# Altium footprint library Connectors.PcbLib: 45 footprints (part 2 of 3)
Each footprint in its own frame and in the unit in brackets; x right, y up, seen from the top. Pads: shape width x height; smd on the part's side, far side on the other; paste and mask are expansions set on the pad; w line width, h text height; cw(c..) or ccw(c..) is an arc to the next point about the centre after c.
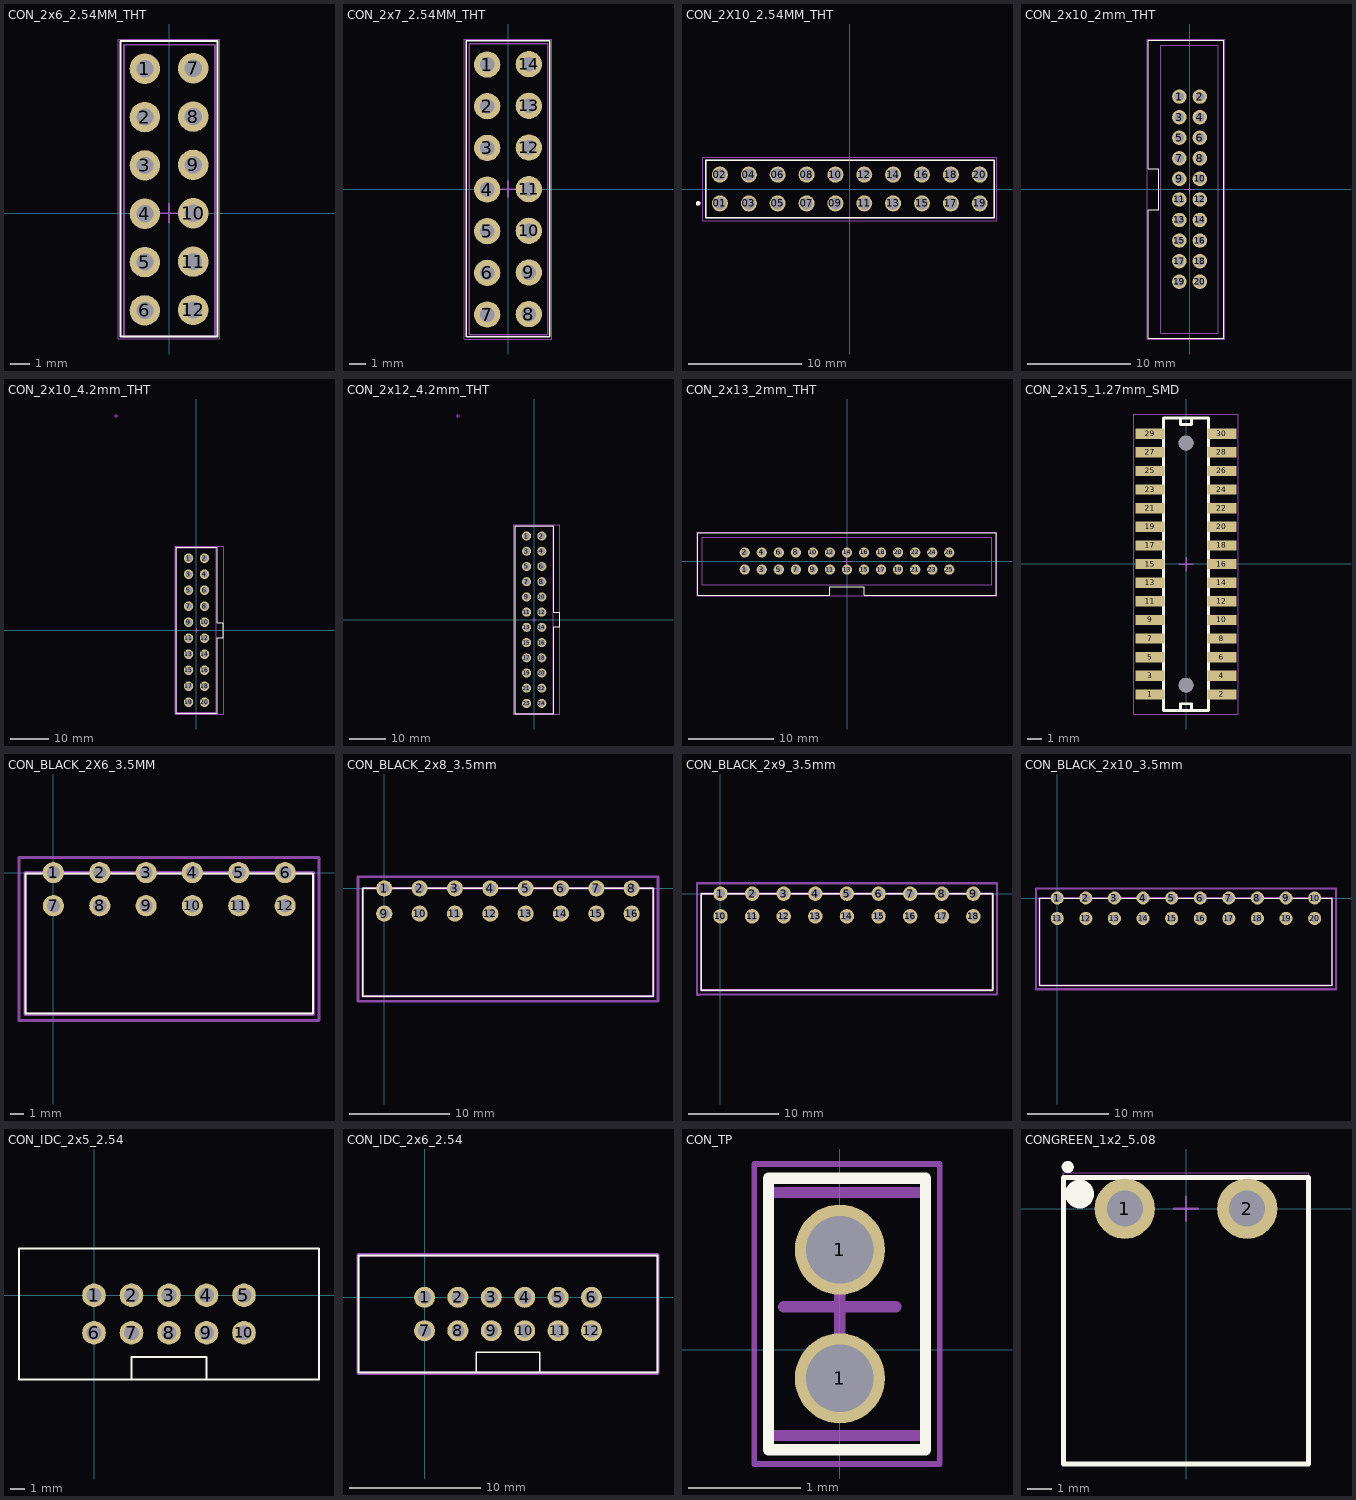
[diagram p1: the footprints below, top view; thin cyan lines are the x and y axes]

## CON_2x6_2.54MM_THT [mm]
height 1.4
pads (12):
  round 1.6 hole 0.9: 1(-1.27,7.596) 2(-1.27,5.056) 3(-1.27,2.516) 4(-1.27,-0.024) 5(-1.27,-2.564) 6(-1.27,-5.104) 7(1.27,7.62) 8(1.27,5.08) 9(1.27,2.54) 10(1.27,0) 11(1.27,-2.54) 12(1.27,-5.08)
Top Overlay:
  lines w0.1: -2.54,-6.477 2.54,-6.477 2.54,9.056 -2.54,9.056 -2.54,-6.477
Bottom Assembly:
  lines w0.05: -2.667,-6.604 -2.667,9.144 ; 2.667,-6.604 2.667,9.144
Mechanical 13:
  lines w0.1: -2.37,-6.471 -1.174,-6.471 1.217,-6.471 2.413,-6.471 ; -2.37,-6.471 -2.37,8.856 2.413,8.856 2.413,-6.471 ; -2.37,-6.471 2.413,-6.471
Mechanical 15:
  lines w0.05: -2.67,-6.598 -1.336,-6.598 1.333,-6.598 2.667,-6.598 ; -2.67,9.156 2.667,9.156
  lines w0.1: -0.492,0 0.508,0 ; 0,-0.493 0,0.507
3D body: height 6.3, standoff 0.1, extent -2.27,-6.477 2.286,8.757

## CON_2x7_2.54MM_THT [mm]
height 1.4
pads (14):
  round 1.6 hole 0.9: 1(-1.27,7.596) 2(-1.27,5.056) 3(-1.27,2.516) 4(-1.27,-0.024) 5(-1.27,-2.564) 6(-1.27,-5.104) 7(-1.27,-7.644) 8(1.27,-7.62) 9(1.27,-5.08) 10(1.27,-2.54) 11(1.27,0) 12(1.27,2.54) 13(1.27,5.08) 14(1.27,7.62)
Top Overlay:
  lines w0.1: -2.54,-9.011 -2.54,9.056 2.54,9.056 2.54,-9.011 -2.54,-9.011
Mechanical 13:
  lines w0.1: -2.37,-8.884 -2.37,8.856 2.413,8.856 2.413,-8.884 -2.37,-8.884
Mechanical 15:
  lines w0.05: -2.67,-9.138 -2.67,9.156 2.667,9.156 2.667,-9.138 -2.67,-9.138
  lines w0.1: -0.492,0 0.508,0 ; 0,-0.493 0,0.507
3D body: height 6.3, standoff 0.1, extent -2.27,-8.757 2.286,8.757

## CON_2X10_2.54MM_THT [mm]
pads (20):
  round 1.41 hole 1.06: 01(-11.43,-1.27) 02(-11.43,1.27) 03(-8.89,-1.27) 04(-8.89,1.27) 05(-6.35,-1.27) 06(-6.35,1.27) 07(-3.81,-1.27) 08(-3.81,1.27) 09(-1.27,-1.27) 10(-1.27,1.27) 11(1.27,-1.27) 12(1.27,1.27) 13(3.81,-1.27) 14(3.81,1.27) 15(6.35,-1.27) 16(6.35,1.27) 17(8.89,-1.27) 18(8.89,1.27) 19(11.43,-1.27) 20(11.43,1.27)
Top Overlay:
  circle w0.2: c-13.35,-1.27 r0.1
  lines w0.127: -12.7,-2.54 12.7,-2.54 12.7,2.54 -12.7,2.54 -12.7,-2.54
Mechanical 13:
  circle w0.2: c-13.35,-1.27 r0.1
  lines w0.127: -12.7,-2.54 -12.7,2.54 ; -12.7,-2.54 12.7,-2.54 ; -12.7,-2.54 -12.7,2.54 ; -12.7,2.54 12.7,2.54 ; -12.7,2.54 12.7,2.54 ; 12.7,-2.54 12.7,2.54 ; 12.7,-2.54 12.7,2.54
Mechanical 15:
  lines w0.05: -12.95,-2.79 12.95,-2.79 12.95,2.79 -12.95,2.79 -12.95,-2.79

## CON_2x10_2mm_THT [mm]
pads (20):
  round 1.4 hole 0.9: 1(-1.001,8.993) 2(0.999,8.993) 3(-1.001,6.993) 4(0.999,6.993) 5(-1.001,4.993) 6(0.999,4.993) 7(-1.001,2.993) 8(0.999,2.993) 9(-1.001,0.993) 10(0.999,0.993) 11(-1.001,-1.007) 12(0.999,-1.007) 13(-1.001,-3.007) 14(0.999,-3.007) 15(-1.001,-5.007) 16(0.999,-5.007) 17(-1.001,-7.007) 18(0.999,-7.007) 19(-1.001,-9.007) 20(0.999,-9.007)
Top Overlay:
  lines w0.1: -4.001,-14.515 3.299,-14.515 3.299,-14.326 3.299,14.493 -4.001,14.493 -4.001,1.994 -3.001,1.994 -3.001,-2.006 -4.001,-2.006 -4.001,-2.07 -4.001,-14.326 -4.001,-14.515
Mechanical 13:
  lines w0.1: -2.801,-14.008 -2.801,13.993 2.799,13.993 2.799,-14.008 ; -2.801,-14.007 2.799,-14.007
Mechanical 15:
  lines w0.05: -4.101,-14.58 -4.101,14.593 3.399,14.593 3.399,-14.58 -4.101,-14.58
  lines w0.1: -0.508,0 0.492,0 ; 0,-0.492 0,0.508
3D body: height 5.65, standoff 0.1, extent -2.8,-14.031 2.8,-13.731
3D body: height 5.5, standoff -2.8, extent 0.799,-9.207 1.199,-8.807
3D body: height 5.5, standoff -2.8, extent -1.201,-9.207 -0.801,-8.807
3D body: height 5.65, standoff 0.1, extent -2.802,-14.008 -2.502,-2.007
3D body: height 5.5, standoff -2.8, extent 0.799,-7.207 1.199,-6.807
3D body: height 5.5, standoff -2.8, extent -1.201,-7.207 -0.801,-6.807
3D body: height 5.5, standoff -2.8, extent 0.799,-5.207 1.199,-4.807
3D body: height 5.5, standoff -2.8, extent -1.201,-5.207 -0.801,-4.807
3D body: height 5.5, standoff -2.8, extent 0.799,-3.207 1.199,-2.807
3D body: height 5.5, standoff -2.8, extent -1.201,-3.207 -0.801,-2.807
3D body: height 5.5, standoff -2.8, extent 0.799,-1.207 1.199,-0.807
3D body: height 5.5, standoff -2.8, extent -1.201,-1.207 -0.801,-0.807
3D body: height 5.65, standoff 0.1, extent 2.498,-14.008 2.799,13.993
3D body: height 1.4, standoff 0.1, extent -2.802,-14.008 2.799,13.993
3D body: height 5.5, standoff -2.8, extent 0.799,0.793 1.199,1.193
3D body: height 5.5, standoff -2.8, extent -1.201,0.793 -0.801,1.193
3D body: height 5.5, standoff -2.8, extent 0.799,2.793 1.199,3.193
3D body: height 5.5, standoff -2.8, extent -1.201,2.793 -0.801,3.193
3D body: height 5.5, standoff -2.8, extent 0.799,4.793 1.199,5.193
3D body: height 5.5, standoff -2.8, extent -1.201,4.793 -0.801,5.193
3D body: height 5.5, standoff -2.8, extent 0.799,6.793 1.199,7.193
3D body: height 5.5, standoff -2.8, extent -1.201,6.793 -0.801,7.193
3D body: height 5.65, standoff 0.1, extent -2.802,1.994 -2.502,13.993
3D body: height 5.5, standoff -2.8, extent 0.799,8.793 1.199,9.193
3D body: height 5.5, standoff -2.8, extent -1.201,8.793 -0.801,9.193
3D body: height 5.65, standoff 0.1, extent -2.802,13.693 2.799,13.993

## CON_2x10_4.2mm_THT [mm]
pads (20):
  round 2.5 hole 1.7: 1(-2.095,18.897) 2(2.105,18.897) 3(-2.095,14.697) 4(2.105,14.697) 5(-2.095,10.497) 6(2.105,10.497) 7(-2.095,6.297) 8(2.105,6.297) 9(-2.095,2.097) 10(2.105,2.097) 11(-2.095,-2.103) 12(2.105,-2.103) 13(-2.095,-6.303) 14(2.105,-6.303) 15(-2.095,-10.503) 16(2.105,-10.503) 17(-2.095,-14.703) 18(2.105,-14.703) 19(-2.095,-18.903) 20(2.105,-18.903)
Top Overlay:
  lines w0.1: -5.395,-21.803 -5.395,21.797 5.405,21.797 5.405,1.997 6.205,1.997 7.005,1.997 7.005,-2.003 5.405,-2.003 5.405,-21.803 -5.395,-21.803
Mechanical 13:
  lines w0.1: -5.195,-21.603 -5.195,21.597 5.205,21.597 5.205,-21.603 -5.195,-21.603
Mechanical 15:
  lines w0.05: -5.595,-22.003 -5.595,21.997 7.105,21.997 7.105,-22.003 -5.595,-22.003
  lines w0.1: -21.545,56.273 -20.545,56.273 ; -21.045,55.773 -21.045,56.773 ; -0.495,-0.003 0.505,-0.003 ; 0.005,-0.503 0.005,0.497
3D body: height 12, standoff -3.7, extent -2.695,14.097 -1.495,15.297
3D body: height 12, standoff -3.7, extent -2.695,9.897 -1.495,11.097
3D body: height 12, standoff -3.7, extent -2.695,5.697 -1.495,6.897
3D body: height 12, standoff -3.7, extent -2.695,1.497 -1.495,2.697
3D body: height 12, standoff -3.7, extent -2.695,-2.703 -1.495,-1.503
3D body: height 12, standoff -3.7, extent -2.695,-6.903 -1.495,-5.703
3D body: height 12, standoff -3.7, extent -2.695,-11.103 -1.495,-9.903
3D body: height 12, standoff -3.7, extent -2.695,-15.303 -1.495,-14.103
3D body: height 12, standoff -3.7, extent 1.505,-15.303 2.705,-14.103
3D body: height 12, standoff -3.7, extent 1.505,-11.103 2.705,-9.903
3D body: height 12, standoff -3.7, extent 1.505,-6.903 2.705,-5.703
3D body: height 12, standoff -3.7, extent 1.505,-2.703 2.705,-1.503
3D body: height 12, standoff -3.7, extent 1.505,1.497 2.705,2.697
3D body: height 12, standoff -3.7, extent 1.505,5.697 2.705,6.897
3D body: height 12, standoff -3.7, extent 1.505,9.897 2.705,11.097
3D body: height 12, standoff -3.7, extent 1.505,14.097 2.705,15.297
3D body: height 12, standoff -3.7, extent 1.505,18.297 2.705,19.497
3D body: height 12, standoff -3.7, extent -2.695,18.297 -1.495,19.497
3D body: height 12, standoff -3.7, extent 1.505,-19.503 2.705,-18.303
3D body: height 12, standoff -3.7, extent -2.695,-19.503 -1.495,-18.303
3D body: height 13.1, standoff 0.1, extent -5.195,-21.603 5.205,21.597

## CON_2x12_4.2mm_THT [mm]
pads (24):
  round 2.5 hole 1.7: 1(-2.095,23.088) 2(2.105,23.088) 3(-2.095,18.888) 4(2.105,18.888) 5(-2.095,14.688) 6(2.105,14.688) 7(-2.095,10.488) 8(2.105,10.488) 9(-2.095,6.288) 10(2.105,6.288) 11(-2.095,2.088) 12(2.105,2.088) 13(-2.095,-2.112) 14(2.105,-2.112) 15(-2.095,-6.312) 16(2.105,-6.312) 17(-2.095,-10.512) 18(2.105,-10.512) 19(-2.095,-14.712) 20(2.105,-14.712) 21(-2.095,-18.912) 22(2.105,-18.912) 23(-2.095,-23.112) 24(2.105,-23.112)
Top Overlay:
  lines w0.1: -5.395,-25.908 5.405,-25.908 5.405,-2.012 7.005,-2.012 7.005,1.988 6.205,1.988 5.405,1.988 5.405,2.188 5.405,25.988 -5.395,25.988 -5.395,-25.908
Mechanical 13:
  lines w0.1: -5.195,-25.781 5.205,-25.781 5.205,25.788 -5.195,25.788 -5.195,-25.781
Mechanical 15:
  lines w0.05: -5.595,-26.035 7.105,-26.035 7.105,26.188 -5.595,26.188 -5.595,-26.035
  lines w0.1: -21.545,56.273 -20.545,56.273 ; -21.045,55.773 -21.045,56.773 ; -0.495,-0.003 0.505,-0.003 ; 0.005,-0.503 0.005,0.497
3D body: height 13.1, standoff 0.1, extent -5.2,-25.781 5.2,25.781
3D body: height 12, standoff -3.7, extent -2.695,-15.312 -1.495,-14.112
3D body: height 12, standoff -3.7, extent 1.505,-15.312 2.705,-14.112
3D body: height 12, standoff -3.7, extent -2.695,22.488 -1.495,23.688
3D body: height 12, standoff -3.7, extent 1.505,22.488 2.705,23.688
3D body: height 12, standoff -3.7, extent 1.505,18.288 2.705,19.488
3D body: height 12, standoff -3.7, extent 1.505,14.088 2.705,15.288
3D body: height 12, standoff -3.7, extent 1.505,9.888 2.705,11.088
3D body: height 12, standoff -3.7, extent 1.505,5.688 2.705,6.888
3D body: height 12, standoff -3.7, extent 1.505,1.488 2.705,2.688
3D body: height 12, standoff -3.7, extent 1.505,-2.712 2.705,-1.512
3D body: height 12, standoff -3.7, extent 1.505,-6.912 2.705,-5.712
3D body: height 12, standoff -3.7, extent 1.505,-11.112 2.705,-9.912
3D body: height 12, standoff -3.7, extent -2.695,-11.112 -1.495,-9.912
3D body: height 12, standoff -3.7, extent -2.695,-6.912 -1.495,-5.712
3D body: height 12, standoff -3.7, extent -2.695,-2.712 -1.495,-1.512
3D body: height 12, standoff -3.7, extent -2.695,1.488 -1.495,2.688
3D body: height 12, standoff -3.7, extent -2.695,5.688 -1.495,6.888
3D body: height 12, standoff -3.7, extent -2.695,9.888 -1.495,11.088
3D body: height 12, standoff -3.7, extent -2.695,14.088 -1.495,15.288
3D body: height 12, standoff -3.7, extent -2.695,18.288 -1.495,19.488

## CON_2x13_2mm_THT [mm]
height 1.4
pads (26):
  round 1.2 hole 0.7: 1(-12,-1) 2(-12,1) 3(-10,-1) 4(-10,1) 5(-8,-1) 6(-8,1) 7(-6,-1) 8(-6,1) 9(-4,-1) 10(-4,1) 11(-2,-1) 12(-2,1) 13(0,-1) 14(0,1) 15(2,-1) 16(2,1) 17(4,-1) 18(4,1) 19(6,-1) 20(6,1) 21(8,-1) 22(8,1) 23(10,-1) 24(10,1) 25(12,-1) 26(12,1)
Top Overlay:
  lines w0.1: -17.5,-4 -2,-4 -2,-3 2,-3 2,-4 17.5,-4 17.5,3.3 -17.5,3.3 -17.5,-4
Mechanical 13:
  lines w0.1: -17,-2.8 17,-2.8 17,2.8 -17,2.8 -17,-2.8
Mechanical 15:
  lines w0.05: -17.6,-4.1 17.6,-4.1 17.6,3.4 -17.6,3.4 -17.6,-4.1
  lines w0.1: -0.5,0 0.5,0 ; 0,-0.5 0,0.5
3D body: height 1.4, standoff 0.1, extent -17,-2.8 17,2.8
3D body: height 5.65, standoff 0.1, extent 2,-2.8 17,-2.5
3D body: height 5.5, standoff -2.8, extent -12.2,0.8 -11.8,1.2
3D body: height 5.5, standoff -2.8, extent -10.2,0.8 -9.8,1.2
3D body: height 5.5, standoff -2.8, extent -8.2,0.8 -7.8,1.2
3D body: height 5.5, standoff -2.8, extent -6.2,0.8 -5.8,1.2
3D body: height 5.5, standoff -2.8, extent -4.2,0.8 -3.8,1.2
3D body: height 5.5, standoff -2.8, extent -2.2,0.8 -1.8,1.2
3D body: height 5.5, standoff -2.8, extent -0.2,0.8 0.2,1.2
3D body: height 5.5, standoff -2.8, extent 1.8,0.8 2.2,1.2
3D body: height 5.5, standoff -2.8, extent 3.8,0.8 4.2,1.2
3D body: height 5.5, standoff -2.8, extent 5.8,0.8 6.2,1.2
3D body: height 5.5, standoff -2.8, extent 7.8,0.8 8.2,1.2
3D body: height 5.5, standoff -2.8, extent 9.8,0.8 10.2,1.2
3D body: height 5.5, standoff -2.8, extent 11.8,0.8 12.2,1.2
3D body: height 5.5, standoff -2.8, extent 11.8,-1.2 12.2,-0.8
3D body: height 5.5, standoff -2.8, extent 9.8,-1.2 10.2,-0.8
3D body: height 5.5, standoff -2.8, extent 7.8,-1.2 8.2,-0.8
3D body: height 5.5, standoff -2.8, extent 5.8,-1.2 6.2,-0.8
3D body: height 5.5, standoff -2.8, extent 3.8,-1.2 4.2,-0.8
3D body: height 5.5, standoff -2.8, extent 1.8,-1.2 2.2,-0.8
3D body: height 5.5, standoff -2.8, extent -0.2,-1.2 0.2,-0.8
3D body: height 5.5, standoff -2.8, extent -2.2,-1.2 -1.8,-0.8
3D body: height 5.5, standoff -2.8, extent -4.2,-1.2 -3.8,-0.8
3D body: height 5.5, standoff -2.8, extent -6.2,-1.2 -5.8,-0.8
3D body: height 5.5, standoff -2.8, extent -8.2,-1.2 -7.8,-0.8
3D body: height 5.5, standoff -2.8, extent -10.2,-1.2 -9.8,-0.8
3D body: height 5.5, standoff -2.8, extent -12.2,-1.2 -11.8,-0.8
3D body: height 5.65, standoff 0.1, extent -17,-2.8 -2,-2.5
3D body: height 5.65, standoff 0.1, extent -17,2.5 17,2.8
3D body: height 5.65, standoff 0.1, extent 16.7,-2.8 17,2.8
3D body: height 5.65, standoff 0.1, extent -17,-2.8 -16.7,2.8

## CON_2x15_1.27mm_SMD [mm]
pads (32):
  rect 2x0.7 smd: 1(-2.452,-8.897) 2(2.448,-8.897) 3(-2.452,-7.627) 4(2.448,-7.627) 5(-2.452,-6.357) 6(2.448,-6.357) 7(-2.452,-5.087) 8(2.448,-5.087) 9(-2.452,-3.817) 10(2.448,-3.817) 11(-2.452,-2.547) 12(2.448,-2.547) 13(-2.452,-1.277) 14(2.448,-1.277) 15(-2.452,-0.007) 16(2.448,-0.007) 17(-2.452,1.263) 18(2.448,1.263) 19(-2.452,2.533) 20(2.448,2.533) 21(-2.452,3.803) 22(2.448,3.803) 23(-2.452,5.073) 24(2.448,5.073) 25(-2.452,6.343) 26(2.448,6.343) 27(-2.452,7.613) 28(2.448,7.613) 29(-2.452,8.883) 30(2.448,8.883)
  round 1 hole 1 unplated: ""(0,-8.262) ""(0,8.248)
Top Overlay:
  lines w0.2: -0.383,-9.982 -0.383,-9.532 0.379,-9.532 0.379,-9.982 ; -0.383,9.968 -0.383,9.518 0.379,9.518 0.379,9.968 ; -1.524,-9.982 1.524,-9.982 1.524,9.968 -1.524,9.968 -1.524,-9.982
Mechanical 13:
  lines w0.1: -1.552,-9.982 -1.552,9.968 1.548,9.968 1.548,-9.982 -1.552,-9.982
Mechanical 15:
  lines w0.05: -3.577,-10.232 -3.577,10.229 3.573,10.229 3.573,-10.232 -3.577,-10.232
  lines w0.1: -0.484,-0.007 0.481,-0.007 ; -0.002,-0.49 -0.002,0.475
3D body: height -0.5, standoff -3.75, extent -1.552,-9.982 1.548,9.968

## CON_BLACK_2X6_3.5MM [mm]
pads (12):
  round 1.6 hole 1: 1(0,0) 2(3.5,0) 3(7,0) 4(10.5,0) 5(14,0) 6(17.5,0) 7(0,-2.5) 8(3.5,-2.5) 9(7,-2.5) 10(10.5,-2.5) 11(14,-2.5) 12(17.5,-2.5)
Top Overlay:
  lines w0.15: -2.098,-10.648 19.598,-10.648 19.598,-0.052 -2.098,-0.052 -2.098,-10.648
Top Assembly:
  lines w0.254: -2.15,-10.7 19.65,-10.7 19.65,0 -2.15,0 -2.15,-10.7
Top Courtyard:
  lines w0.254: -2.6,-11.172 -2.354,-11.172 -2.349,-11.168 20.061,-11.168 20.061,-10.668 20.061,0 20.061,1.14 -2.349,1.14 -2.599,1.14 -2.6,1.139 -2.6,0 -2.6,-10.668 -2.6,-11.172
3D body: height 0.9, standoff 0.1, extent -2.032,-10.7 19.685,0

## CON_BLACK_2x8_3.5mm [mm] "15EDGKNH KF2EDGKS 3.5 Double-layer spring-loaded PCB terminal block 2EDGSR black terminal"
pads (16):
  round 1.6 hole 1: 1(0,0) 2(3.5,0) 3(7,0) 4(10.5,0) 5(14,0) 6(17.5,0) 7(21,0) 8(24.5,0) 9(0,-2.5) 10(3.5,-2.5) 11(7,-2.5) 12(10.5,-2.5) 13(14,-2.5) 14(17.5,-2.5) 15(21,-2.5) 16(24.5,-2.5)
Top Overlay:
  lines w0.15: -2.15,-10.7 26.65,-10.7 26.65,0 -2.15,0 -2.15,-10.7
Top Assembly:
  lines w0.254: -2.15,-10.7 26.65,-10.7 26.65,0 -2.15,0 -2.15,-10.7
Top Courtyard:
  lines w0.254: -2.6,-11.172 -2.354,-11.172 -2.349,-11.168 26.86,-11.168 26.864,-11.171 27.11,-11.171 27.11,-10.668 27.11,0 27.11,1.14 26.86,1.14 -2.349,1.14 -2.599,1.14 -2.6,1.139 -2.6,0 -2.6,-10.668 -2.6,-11.172
3D body: height 0.9, standoff 0.1, extent -2.159,-10.7 26.67,-0.054

## CON_BLACK_2x9_3.5mm [mm] "15EDGKNH KF2EDGKS 3.5 Double-layer spring-loaded PCB terminal block 2EDGSR black terminal"
pads (18):
  round 1.6 hole 1: 1(0,0) 2(3.5,0) 3(7,0) 4(10.5,0) 5(14,0) 6(17.5,0) 7(21,0) 8(24.5,0) 9(28,0) 10(0,-2.5) 11(3.5,-2.5) 12(7,-2.5) 13(10.5,-2.5) 14(14,-2.5) 15(17.5,-2.5) 16(21,-2.5) 17(24.5,-2.5) 18(28,-2.5)
Top Overlay:
  lines w0.15: -2.15,-10.7 -2.15,0 26.65,0 30.15,0 30.15,-10.7 26.65,-10.7 -2.15,-10.7
Top Assembly:
  lines w0.254: -2.15,-10.7 -2.15,0 26.65,0 30.15,0 30.15,-10.7 26.65,-10.7 -2.15,-10.7
Top Courtyard:
  lines w0.254: 26.864,-11.171 26.86,-11.168 ; 26.86,-11.168 -2.349,-11.168 -2.354,-11.172 -2.6,-11.172 -2.6,-10.668 -2.6,0 -2.6,1.139 -2.599,1.14 -2.349,1.14 26.86,1.14 30.607,1.14 30.615,1.14 30.615,0 30.615,-10.668 30.615,-11.168 30.543,-11.168 26.86,-11.168
3D body: height 0.9, standoff 0.1, extent -2.159,-10.7 30.15,-0.054

## CON_BLACK_2x10_3.5mm [mm] "15EDGKNH KF2EDGKS 3.5 Double-layer spring-loaded PCB terminal block 2EDGSR black terminal"
pads (20):
  round 1.6 hole 1: 1(0,0) 2(3.5,0) 3(7,0) 4(10.5,0) 5(14,0) 6(17.5,0) 7(21,0) 8(24.5,0) 9(28,0) 10(31.5,0) 11(0,-2.5) 12(3.5,-2.5) 13(7,-2.5) 14(10.5,-2.5) 15(14,-2.5) 16(17.5,-2.5) 17(21,-2.5) 18(24.5,-2.5) 19(28,-2.5) 20(31.5,-2.5)
Top Overlay:
  lines w0.15: -2.15,-10.7 -2.15,0 26.65,0 33.65,0 33.65,-10.7 26.65,-10.7 -2.15,-10.7
Top Assembly:
  lines w0.254: -2.15,-10.7 -2.15,0 26.65,0 33.65,0 33.65,-10.7 26.65,-10.7 -2.15,-10.7
Top Courtyard:
  lines w0.254: 26.864,-11.171 26.86,-11.168 ; 26.86,-11.168 -2.349,-11.168 -2.354,-11.172 -2.6,-11.172 -2.6,-10.668 -2.6,0 -2.6,1.139 -2.599,1.14 -2.349,1.14 26.86,1.14 34.115,1.14 34.115,0 34.115,-10.668 34.115,-11.168 26.86,-11.168
3D body: height 0.9, standoff 0.1, extent -2.159,-10.7 33.655,-0.054

## CON_IDC_2x5_2.54 [mm]
pads (10):
  round 1.6 hole 1: 1(0,0) 2(2.54,0) 3(5.08,0) 4(7.62,0) 5(10.16,0) 6(0,-2.54) 7(2.54,-2.54) 8(5.08,-2.54) 9(7.62,-2.54) 10(10.16,-2.54)
Top Overlay:
  lines w0.127: -5.08,-5.715 -5.08,3.175 15.24,3.175 15.24,-5.715 -5.08,-5.715
  lines w0.128: 2.54,-5.715 2.54,-4.191 7.62,-4.191 7.62,-5.715
3D body: height 0.9, standoff 0.1, extent -5.08,-5.715 15.265,3.175

## CON_IDC_2x6_2.54 [mm]
pads (12):
  round 1.6 hole 1: 1(0,0) 2(2.54,0) 3(5.08,0) 4(7.62,0) 5(10.16,0) 6(12.7,0) 7(0,-2.54) 8(2.54,-2.54) 9(5.08,-2.54) 10(7.62,-2.54) 11(10.16,-2.54) 12(12.7,-2.54)
Top Overlay:
  lines w0.128: 3.937,-5.715 3.937,-4.191 8.763,-4.191 8.763,-5.715 ; -5.016,-5.715 17.717,-5.715 17.717,3.175 -5.016,3.175 -5.016,-5.715
Top Assembly:
  lines w0.254: -5.06,-5.77 17.76,-5.77 17.76,3.23 -5.06,3.23 -5.06,-5.77
3D body: height 0.9, standoff 0.1, extent -5.017,-5.715 17.717,3.175

## CON_TP [mm] "Test Point"
height 1.4
pads (2):
  round 0.8 hole 0.6: 1(0,-0.254) 1(0,0.889)
Top Overlay:
  lines w0.1: -0.635,-0.889 0.762,-0.889 0.762,1.524 -0.635,1.524 -0.635,-0.889
Mechanical 1:
  lines w0.1: -0.635,-0.762 -0.635,1.397 ; 0.762,-0.762 0.762,1.397
Mechanical 13:
  lines w0.1: -0.635,-0.762 0.762,-0.762 ; -0.635,1.397 0.762,1.397
Mechanical 15:
  lines w0.05: -0.762,-1.016 -0.762,1.651 0.889,1.651 0.889,-1.016 -0.762,-1.016
  lines w0.1: -0.5,0.381 0.5,0.381 ; 0,-0.119 0,0.881
3D body: height 6.3, standoff 0.1, extent -0.635,-0.762 0.762,1.397

## CONGREEN_1x2_5.08 [mm]
height 4.8
pads (2):
  round 2.5 hole 1.5: 1(-2.54,0) 2(2.54,0)
Top Overlay:
  circle w0.25: c-4.91,1.73 r0.125
  circle w0.6: c-4.42,0.61 r0.3
  lines w0.2: -5.08,-10.6 -5.08,1.3 5.08,1.3 5.08,-10.6 -5.08,-10.6
Mechanical 13:
  circle w0.1: c-4.43,0.61 r0.5
  lines w0.1: -5.08,-10.6 -5.08,1.3 5.08,1.3 5.08,-10.6 -5.08,-10.6
Mechanical 15:
  lines w0.05: -5.1,-10.6 -5.1,1.5 5.1,1.5 5.1,-10.6 -5.1,-10.6
  lines w0.1: -0.5,0 0.5,0 ; 0,-0.5 0,0.5
3D body: height 3.6, standoff -3.6, extent -3.04,-0.5 -2.04,0.5
3D body: height 3.6, standoff -3.6, extent 2.04,-0.5 3.04,0.5
3D body: height 4.6, standoff 3.6, extent 2.02,-9.5 3.02,0.55
3D body: height 4.6, standoff 3.6, extent -3.03,-9.5 -2.03,0.6
3D body: height 8.2, standoff 0.1, extent -5.08,-3.35 5.08,1.35
3D body: height 1.8, standoff 0.1, extent -5.08,-10.62 5.08,1.29
3D body: height 9, standoff 8.2, extent -5.09,-10.622 5.07,-7.9
3D body: height 8.2, standoff 6.5, extent -5.08,-10.62 5.08,1.29